# Altium schematic symbol library LTC2367CMS-18_PBF.SCHLIB: 1 symbol
Pins are listed as number, name and electrical type; pins without a type are passive.

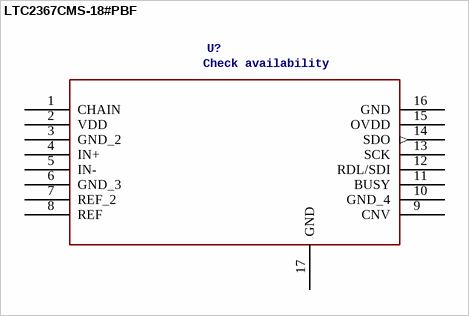
[diagram p0: symbol LTC2367CMS-18#PBF]

## LTC2367CMS-18#PBF
designator U?, comment Check availability
GateName_1: A; SymbolName_1: LTC2367CMS-18#PBF; MF: Analog Devices; LibraryName: LTC2367CMS-18_PBF; DeviceSetName: LTC2367CMS-18#PBF; Purchase-URL: https://pricing.snapeda.com/search/part/LTC2367CMS-18#PBF/?ref=eda; Package: MSOP-16 Analog Devices; MP: LTC2367CMS-18#PBF; Price: None; Availability: In Stock
footprint SON45P400X300X80-17N
pins: 1 CHAIN, 2 VDD (power), 3 GND_2 (power), 4 IN+, 5 IN-, 6 GND_3 (power), 7 REF_2, 8 REF, 9 CNV, 10 GND_4 (power), 11 BUSY, 12 RDL/SDI, 13 SCK, 14 SDO (out), 15 OVDD (power), 16 GND (power), 17 GND (power)